# Altium footprint library CAM-M8Q-0.PcbLib: 2 footprints
Each footprint in its own frame and in the unit in brackets; x right, y up, seen from the top. Pads: shape width x height; smd on the part's side, far side on the other; paste and mask are expansions set on the pad; w line width, h text height; cw(c..) or ccw(c..) is an arc to the next point about the centre after c.
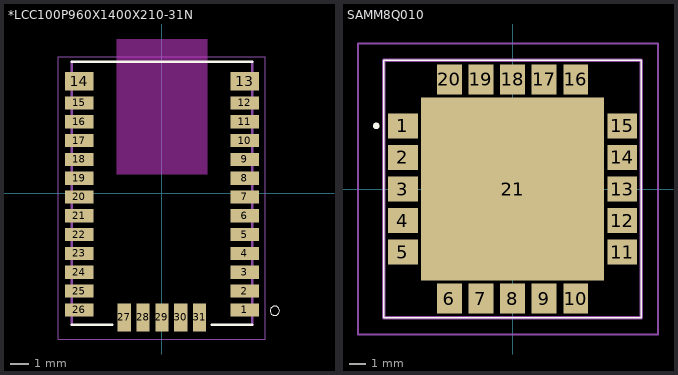
[diagram p0: the footprints below, top view; thin cyan lines are the x and y axes]

## *LCC100P960X1400X210-31N [mm]
pads (31):
  rect 1.5x0.7 smd: 1(4.4,-6.2) 2(4.4,-5.2) 3(4.4,-4.2) 4(4.4,-3.2) 5(4.4,-2.2) 6(4.4,-1.2) 7(4.4,-0.2) 8(4.4,0.8) 9(4.4,1.8) 10(4.4,2.8) 11(4.4,3.8) 12(4.4,4.8) 15(-4.4,4.8) 16(-4.4,3.8) 17(-4.4,2.8) 18(-4.4,1.8) 19(-4.4,0.8) 20(-4.4,-0.2) 21(-4.4,-1.2) 22(-4.4,-2.2) 23(-4.4,-3.2) 24(-4.4,-4.2) 25(-4.4,-5.2) 26(-4.4,-6.2)
  rect 1.5x1 smd: 13(4.4,5.95) 14(-4.4,5.95)
  rect 0.7x1.5 smd: 27(-2,-6.6) 28(-1,-6.6) 29(0,-6.6) 30(1,-6.6) 31(2,-6.6)
Top Overlay:
  circle w0: c6,-6.25 r0.25
  lines w0.127: -4.8,-7 -2.65,-7 ; -4.8,7 4.8,7 ; 2.65,-7 4.8,-7
Keep-Out Layer:
  region: -2.403,8.2 2.4,8.2 2.4,1.001 -2.403,1.001
  region: -2.403,8.2 2.4,8.2 2.4,1.001 -2.403,1.001
  region: -2.403,8.2 2.4,8.2 2.4,1.001 -2.403,1.001
Mechanical 13:
  lines w0.127: -4.8,-7 -4.8,7 -4.8,-7 ; 4.8,-7 4.8,7 4.8,-7
Mechanical 15:
  lines w0.05: -5.5,-7.75 -5.5,7.25 5.5,7.25 5.5,-7.75 -5.5,-7.75

## SAMM8Q010 [mm]
pads (21):
  rect 1.8x1.5 smd: 1(-6.6,3.8) 2(-6.6,1.9) 3(-6.6,0) 4(-6.6,-1.9) 5(-6.6,-3.8) 11(6.6,-3.8) 12(6.6,-1.9) 13(6.6,0) 14(6.6,1.9) 15(6.6,3.8)
  rect 1.5x1.8 smd: 6(-3.8,-6.6) 7(-1.9,-6.6) 8(0,-6.6) 9(1.9,-6.6) 10(3.8,-6.6) 16(3.8,6.6) 17(1.9,6.6) 18(0,6.6) 19(-1.9,6.6) 20(-3.8,6.6)
  rect 11x11 smd: 21(0,0)
Top Overlay:
  lines w0.1: -7.75,-7.75 7.75,-7.75 7.75,7.75 -7.75,7.75 -7.75,-7.75
  lines w0.2: -8.2,3.7 ccw(c-8.2,3.8) -8.2,3.9 ccw(c-8.2,3.8) -8.2,3.7
Mechanical 13:
  lines w0.2: -7.75,-7.75 7.75,-7.75 7.75,7.75 -7.75,7.75 -7.75,-7.75
Mechanical 15:
  lines w0.1: -9.3,-8.75 8.75,-8.75 8.75,8.75 -9.3,8.75 -9.3,-8.75
3D body "SAM-M8Q-0-10.stp": height 3.1, standoff 0, extent -7.75,-7.75 7.75,7.75